# EAGLE library part MS51TC0AE (library pimoroni-ics)
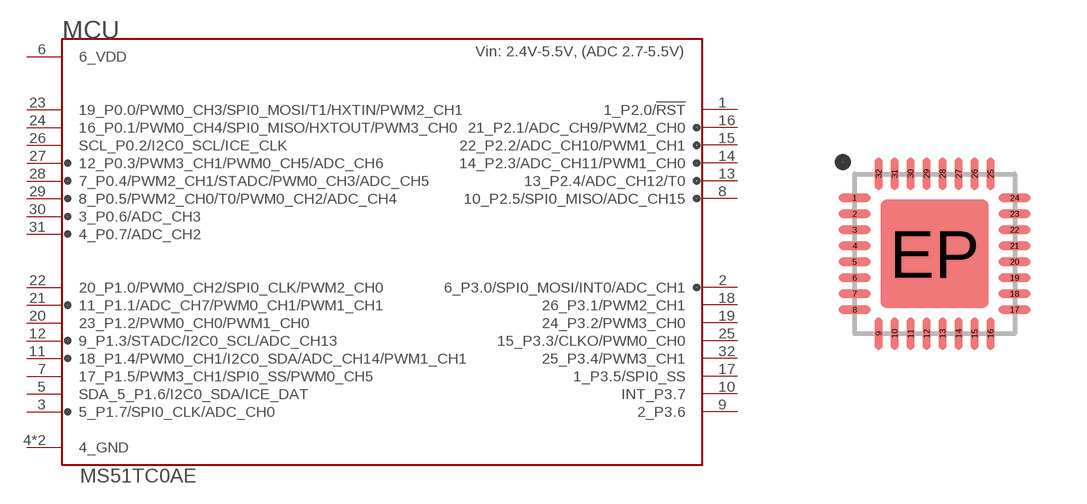
[diagram p128: symbol with the pads of QFN-32-0.4MM; footprint QFN-32-0.4MM]

Designator prefix MCU

## MS51TC0AE  [QFN-32-0.4MM]
1  1_P2.0/!RST
2  6_P3.0/SPI0_MOSI/INT0/ADC_CH1
3  5_P1.7/SPI0_CLK/ADC_CH0
4  4_GND
5  SDA_5_P1.6/I2C0_SDA/ICE_DAT
6  6_VDD
7  17_P1.5/PWM3_CH1/SPI0_SS/PWM0_CH5
8  10_P2.5/SPI0_MISO/ADC_CH15
9  2_P3.6
10  INT_P3.7
11  18_P1.4/PWM0_CH1/I2C0_SDA/ADC_CH14/PWM1_CH1
12  9_P1.3/STADC/I2C0_SCL/ADC_CH13
13  13_P2.4/ADC_CH12/T0
14  14_P2.3/ADC_CH11/PWM1_CH0
15  22_P2.2/ADC_CH10/PWM1_CH1
16  21_P2.1/ADC_CH9/PWM2_CH0
17  1_P3.5/SPI0_SS
18  26_P3.1/PWM2_CH1
19  24_P3.2/PWM3_CH0
20  23_P1.2/PWM0_CH0/PWM1_CH0
21  11_P1.1/ADC_CH7/PWM0_CH1/PWM1_CH1
22  20_P1.0/PWM0_CH2/SPI0_CLK/PWM2_CH0
23  19_P0.0/PWM0_CH3/SPI0_MOSI/T1/HXTIN/PWM2_CH1
24  16_P0.1/PWM0_CH4/SPI0_MISO/HXTOUT/PWM3_CH0
25  15_P3.3/CLKO/PWM0_CH0
26  SCL_P0.2/I2C0_SCL/ICE_CLK
27  12_P0.3/PWM3_CH1/PWM0_CH5/ADC_CH6
28  7_P0.4/PWM2_CH1/STADC/PWM0_CH3/ADC_CH5
29  8_P0.5/PWM2_CH0/T0/PWM0_CH2/ADC_CH4
30  3_P0.6/ADC_CH3
31  4_P0.7/ADC_CH2
32  25_P3.4/PWM3_CH1
EP  4_GND

## Footprint QFN-32-0.4MM (pad centres in mm)
smd 0.8 x 0.2: 1 -2,1.4; 2 -2,1; 3 -2,0.6; 4 -2,0.2; 5 -2,-0.2; 6 -2,-0.6; 7 -2,-1; 8 -2,-1.4; 17 2,-1.4; 18 2,-1; 19 2,-0.6; 20 2,-0.2; 21 2,0.2; 22 2,0.6; 23 2,1; 24 2,1.4
smd 0.2 x 0.8: 9 -1.4,-2; 10 -1,-2; 11 -0.6,-2; 12 -0.2,-2; 13 0.2,-2; 14 0.6,-2; 15 1,-2; 16 1.4,-2; 25 1.4,2; 26 1,2; 27 0.6,2; 28 0.2,2; 29 -0.2,2; 30 -0.6,2; 31 -1,2; 32 -1.4,2
smd 2.7 x 2.7: EP 0,0